# Altium schematic symbol library YS_STM32f103.SCHLIB: 71 symbols
Pins are listed as number, name and electrical type; pins without a type are passive.

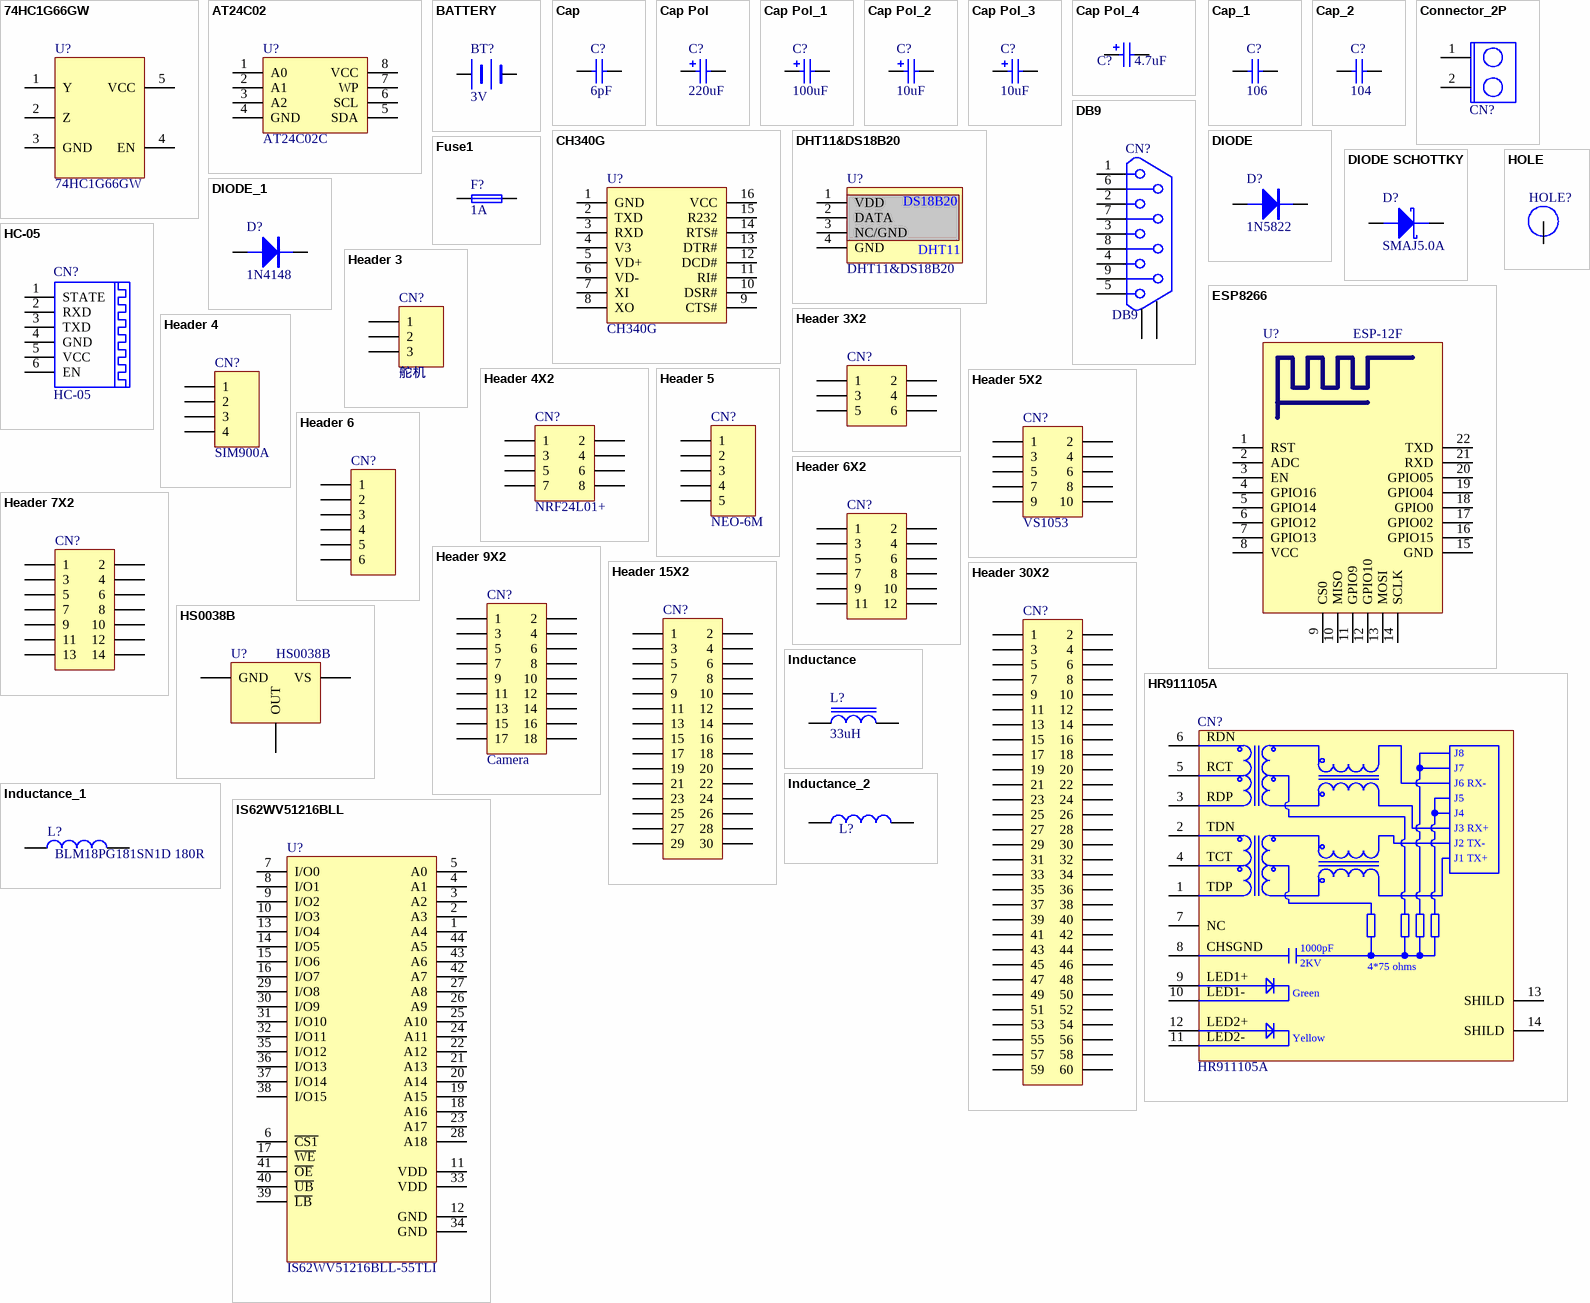
[diagram p0: symbols 74HC1G66GW to IS62WV51216BLL]

## 74HC1G66GW
designator U?
footprint SOT-353
pins: 1 Y, 2 Z, 3 GND, 4 EN, 5 VCC

## AT24C02
designator U?, comment AT24C02C
footprint SOIC8_39MM
pins: 1 A0, 2 A1, 3 A2, 4 GND, 5 SDA, 6 SCL, 7 WP, 8 VCC

## BATTERY
designator BT?  value 3V  (hidden comment: BATTERY)
footprint BATERY
pins: 1 +, 2 -

## Cap
designator C?  value 6pF  (hidden comment: Cap)
Capacitor; Published: 8-Jun-2000; LatestRevisionDate: 17-Jul-2002; LatestRevisionNote: Re-released for DXP Platform.; Publisher: Altium Limited
simulation model CAP (Capacitor)
signal-integrity model Cap
footprint 0603
pins: 1, 2

## Cap Pol
designator C?  value 220uF  (hidden comment: Cap Pol)
Polarized Capacitor (Radial); Published: 8-Jun-2000; LatestRevisionDate: 17-Jul-2002; LatestRevisionNote: Re-released for DXP Platform.; Publisher: Altium Limited
simulation model CAP (Capacitor)
signal-integrity model Cap Pol
footprint CAP-8.4X8.4MM
pins: 1, 2
1 alternate drawing of the same symbol

## Cap Pol_1
designator C?, comment value 100uF  (hidden comment: Cap Pol)
Polarized Capacitor (Radial); Published: 8-Jun-2000; LatestRevisionDate: 17-Jul-2002; LatestRevisionNote: Re-released for DXP Platform.; Publisher: Altium Limited
simulation model CAP (Capacitor)
signal-integrity model Cap Pol
footprint CAP-6.6X6.6MM
pins: 1, 2
1 alternate drawing of the same symbol

## Cap Pol_2
designator C?, comment value 10uF  (hidden comment: Cap Pol)
Polarized Capacitor (Radial); Published: 8-Jun-2000; LatestRevisionDate: 17-Jul-2002; LatestRevisionNote: Re-released for DXP Platform.; Publisher: Altium Limited
simulation model CAP (Capacitor)
signal-integrity model Cap Pol
footprint AVX_A_6032
footprint AVX_A_3216
pins: 1, 2
1 alternate drawing of the same symbol

## Cap Pol_3
designator C?, comment value 10uF  (hidden comment: Cap Pol)
Polarized Capacitor (Radial); Published: 8-Jun-2000; LatestRevisionDate: 17-Jul-2002; LatestRevisionNote: Re-released for DXP Platform.; Publisher: Altium Limited
footprint AVX_A_6032
footprint CAPPR2-5x6.8 (Capacitor, Electrolytic, Radial; Body 5 x 6.8 mm (Dia.xH typ); Pin Spacing 2 mm (typ))
footprint CAPPR5-5x5 (Capacitor, Electrolytic, Radial; Body 5 x 5 mm (Dia.xH typ); Pin Spacing 5 mm (typ))
footprint CAPPR7.5-16x35 (Capacitor, Electrolytic, Radial; Body 16 x 35 mm (Dia.xH typ); Pin Spacing 7.5 mm (typ))
simulation model CAP (Capacitor)
signal-integrity model Cap Pol
footprint AVX_A_3216
pins: 1, 2
1 alternate drawing of the same symbol

## Cap Pol_4
designator C?, comment value 4.7uF  (hidden comment: Cap Pol)
Polarized Capacitor (Radial); Published: 8-Jun-2000; LatestRevisionDate: 17-Jul-2002; LatestRevisionNote: Re-released for DXP Platform.; Publisher: Altium Limited
simulation model CAP (Capacitor)
signal-integrity model Cap Pol
footprint 1812D
footprint 0805
pins: 1, 2
1 alternate drawing of the same symbol

## Cap_1
designator C?, comment value 106  (hidden comment: Cap)
Capacitor; Published: 8-Jun-2000; LatestRevisionDate: 17-Jul-2002; LatestRevisionNote: Re-released for DXP Platform.; Publisher: Altium Limited
footprint 0603
simulation model CAP (Capacitor)
signal-integrity model Cap
footprint 0805
pins: 1, 2

## Cap_2
designator C?, comment value 104  (hidden comment: Cap)
Capacitor; Published: 8-Jun-2000; LatestRevisionDate: 17-Jul-2002; LatestRevisionNote: Re-released for DXP Platform.; Publisher: Altium Limited
footprint C_1
footprint 0603
footprint CAPR5.08-7.8x3.2 (Capacitor, Ceramic, Thru-Hole, Dipped Radial; Body 7.8 x 3.2 mm (WxT) Pin Spacing 5.08 mm (typ))
simulation model CAP (Capacitor)
signal-integrity model Cap
pins: 1, 2

## CH340G
designator U?
footprint SOIC16_39MM
pins: 1 GND, 2 TXD, 3 RXD, 4 V3, 5 VD+, 6 VD-, 7 XI, 8 XO, 9 CTS#, 10 DSR#, 11 RI#, 12 DCD#, 13 DTR#, 14 RTS#, 15 R232, 16 VCC

## Connector_2P
designator CN?  (value not drawn)
footprint CON1X2(5.08mm)
pins: 1, 2

## DB9
designator CN?
footprint CON-JH-9P/SC/R-JL
pins: 0, 0, 1, 2, 3, 4, 5, 6, 7, 8, 9

## DHT11&DS18B20
designator U?
humiture sensor
footprint DHT11&DS18B20
pins: 1 VDD, 2 DATA, 3 NC/GND, 4 GND
text: DS18B20; DHT11

## DIODE
designator D?, comment 1N5822
Diode
footprint SMA
pins: 1 A, 2 K

## DIODE SCHOTTKY
designator D?, comment SMAJ5.0A
Schottky Diode
footprint SMA
pins: 1 A, 2 K

## DIODE_1
designator D?, comment 1N4148
Diode
footprint LL-34
pins: 1 A, 2 K

## ESP8266
designator U?, comment ESP-12F
footprint ESP-12F
pins: 1 RST, 2 ADC, 3 EN, 4 GPIO16, 5 GPIO14, 6 GPIO12, 7 GPIO13, 8 VCC, 9 CS0, 10 MISO, 11 GPIO9, 12 GPIO10, 13 MOSI, 14 SCLK, 15 GND, 16 GPIO15, 17 GPIO02, 18 GPIO0, 19 GPIO04, 20 GPIO05, 21 RXD, 22 TXD

## Fuse1
designator F?, comment value 1A  (hidden comment: Fuse)
footprint FUSE_1812
pins: 1, 2

## HC-05
designator CN?
HC-05_BLUETOOTH
footprint CON1X6(2.54mm) (Connector; Header; 6 Position)
pins: 1 STATE, 2 RXD, 3 TXD, 4 GND, 5 VCC, 6 EN

## Header 3
designator CN?, comment 舵机
Header, 3-Pin; LatestRevisionDate: 17-Jul-2002; LatestRevisionNote: Re-released for DXP Platform.; Publisher: Altium Limited
footprint CON1X3(2.54mm) (Connector; Header; 3 Position)
signal-integrity model Connector
pins: 1, 2, 3

## Header 3X2
designator CN?  (value not drawn)
Header, 3-Pin, Dual row; LatestRevisionDate: 17-Jul-2002; LatestRevisionNote: Re-released for DXP Platform.; Publisher: Altium Limited
footprint CON2X3(2.54mm)
signal-integrity model Connector
pins: 1, 2, 3, 4, 5, 6

## Header 4
designator CN?, comment SIM900A
Header, 4-Pin; LatestRevisionDate: 17-Jul-2002; LatestRevisionNote: Re-released for DXP Platform.; Publisher: Altium Limited
footprint CON1X4(2.54mm) (Connector; Header; 4 Position)
signal-integrity model Connector
pins: 1, 2, 3, 4

## Header 4X2
designator CN?, comment NRF24L01+
Header, 4-Pin, Dual row; LatestRevisionDate: 17-Jul-2002; LatestRevisionNote: Re-released for DXP Platform.; Publisher: Altium Limited
footprint CON2X4(2.54MM)
signal-integrity model Connector
pins: 1, 2, 3, 4, 5, 6, 7, 8

## Header 5
designator CN?, comment NEO-6M
Header, 5-Pin; LatestRevisionDate: 17-Jul-2002; LatestRevisionNote: Re-released for DXP Platform.; Publisher: Altium Limited
footprint CON1X5(2.54mm) (Connector; Header; 5 Position)
signal-integrity model Connector
pins: 1, 2, 3, 4, 5

## Header 5X2
designator CN?, comment VS1053
Header, 5-Pin, Dual row; LatestRevisionDate: 17-Jul-2002; LatestRevisionNote: Re-released for DXP Platform.; Publisher: Altium Limited
footprint CON2X5(2.54MM)
signal-integrity model Connector
pins: 1, 2, 3, 4, 5, 6, 7, 8, 9, 10

## Header 6
designator CN?  (value not drawn)
Header, 6-Pin; LatestRevisionDate: 17-Jul-2002; LatestRevisionNote: Re-released for DXP Platform.; Publisher: Altium Limited
footprint CON1X6(2.54mm) (Connector; Header; 6 Position)
signal-integrity model Connector
footprint XH2.54-6P_90
footprint XH2.54-6P
pins: 1, 2, 3, 4, 5, 6

## Header 6X2
designator CN?  (value not drawn)
Header, 6-Pin, Dual row; LatestRevisionDate: 17-Jul-2002; LatestRevisionNote: Re-released for DXP Platform.; Publisher: Altium Limited
signal-integrity model Connector
footprint CON2X6(2.54MM)
pins: 1, 2, 3, 4, 5, 6, 7, 8, 9, 10, 11, 12

## Header 7X2
designator CN?  (value not drawn)
Header, 7-Pin, Dual row; LatestRevisionDate: 17-Jul-2002; LatestRevisionNote: Re-released for DXP Platform.; Publisher: Altium Limited
footprint HDR2X7 (Connector; Header; 7x2 Position)
signal-integrity model Connector
footprint CON2X7(2.54MM)
pins: 1, 2, 3, 4, 5, 6, 7, 8, 9, 10, 11, 12, 13, 14

## Header 9X2
designator CN?, comment Camera
Header, 9-Pin, Dual row; LatestRevisionDate: 17-Jul-2002; LatestRevisionNote: Re-released for DXP Platform.; Publisher: Altium Limited
footprint CON2X9(2.54MM)
signal-integrity model Connector
pins: 1, 2, 3, 4, 5, 6, 7, 8, 9, 10, 11, 12, 13, 14, 15, 16, 17, 18

## Header 15X2
designator CN?  (value not drawn)
Header, 15-Pin, Dual row; LatestRevisionDate: 17-Jul-2002; LatestRevisionNote: Re-released for DXP Platform.; Publisher: Altium Limited
footprint LCD_Module_30pin
signal-integrity model Connector
pins: 1, 2, 3, 4, 5, 6, 7, 8, 9, 10, 11, 12, 13, 14, 15, 16, 17, 18, 19, 20, 21, 22, 23, 24, 25, 26, 27, 28, 29, 30

## Header 30X2
designator CN?  (value not drawn)
Header, 30-Pin, Dual row; LatestRevisionDate: 17-Jul-2002; LatestRevisionNote: Re-released for DXP Platform.; Publisher: Altium Limited
footprint CON2X30(2.54MM)
signal-integrity model Connector
pins: 1, 2, 3, 4, 5, 6, 7, 8, 9, 10, 11, 12, 13, 14, 15, 16, 17, 18, 19, 20, 21, 22, 23, 24, 25, 26, 27, 28, 29, 30, 31, 32, 33, 34, 35, 36, 37, 38, 39, 40, 41, 42, 43, 44, 45, 46, 47, 48, 49, 50, 51, 52, 53, 54, 55, 56, 57, 58, 59, 60

## HOLE
designator HOLE?  (value not drawn)
Value: 3.0mm
footprint HOLE-M3
pins: 1

## HR911105A
designator CN?
footprint HR911105A
pins: 1 TD+, 2 TD-, 3 RD+, 4 TCT, 5 RCT, 6 RD-, 7 NC, 8 CHS, 9 LED1+, 10 LED1-, 11 LED2-, 12 LED2+, 13 SHILD, 14 SHILD
text: RDN; J8; J7; J6 RX-; RDP; J5; J4; TDN; J3 RX+; J2 TX-; J1 TX+; TDP; CHSGND; 1000pF; 2KV; 4*75 ohms; Green; Yellow

## HS0038B
designator U?
footprint CON1X3(2.54mm) (Connector; Header; 3 Position)
pins: 1 OUT, 2 GND, 3 VS

## Inductance
designator L?  value 33uH  (hidden comment: Inductance)
footprint L-SMT-7X7
pins: 1, 2

## Inductance_1
designator L?, comment value BLM18PG181SN1D 180R  (hidden comment: Inductance)
footprint 0603
pins: 1, 2

## Inductance_2
designator L?, comment Inductance  (value not drawn)
Value: 10uH
footprint 0805
footprint 0603
pins: 1, 2

## IS62WV51216BLL
designator U?, comment IS62WV51216BLL-55TLI
footprint TSOP44-0.8MM
pins: 1 A4, 2 A3, 3 A2, 4 A1, 5 A0, 6 ~{CS1}, 7 I/O0, 8 I/O1, 9 I/O2, 10 I/O3, 11 VDD, 12 GND, 13 I/O4, 14 I/O5, 15 I/O6, 16 I/O7, 17 ~{WE}, 18 A16, 19 A15, 20 A14, 21 A13, 22 A12, 23 A17, 24 A11, 25 A10, 26 A9, 27 A8, 28 A18, 29 I/O8, 30 I/O9, 31 I/O10, 32 I/O11, 33 VDD, 34 GND, 35 I/O12, 36 I/O13, 37 I/O14, 38 I/O15, 39 ~{LB}, 40 ~{UB}, 41 ~{OE}, 42 A7, 43 A6, 44 A5

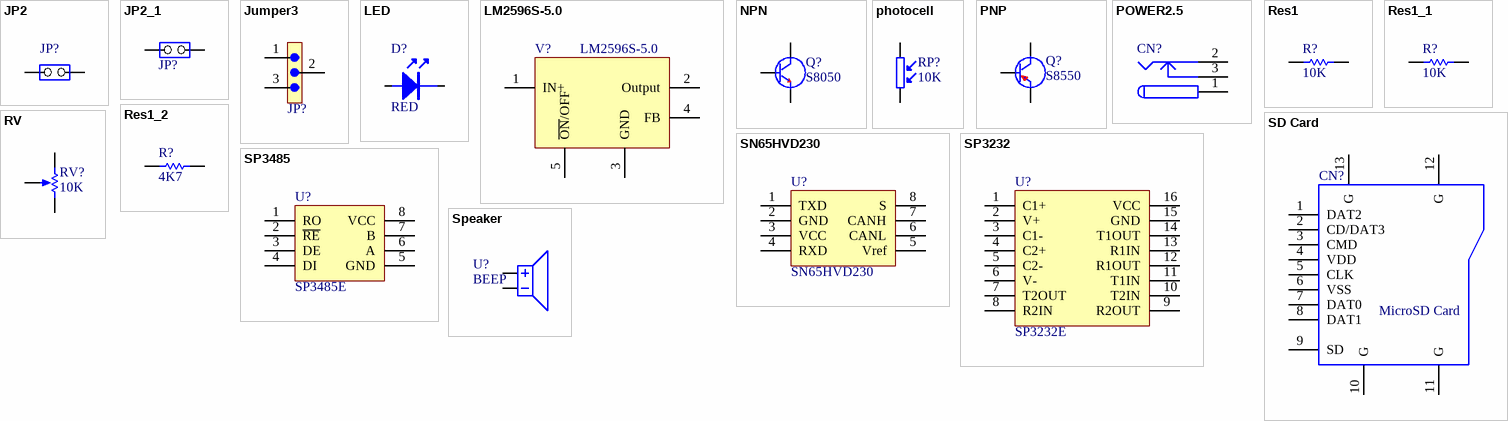
[diagram p1: symbols JP2 to Speaker]

## JP2
designator JP?  (value not drawn)
footprint CON1X2(2.54mm) (Connector; Header; 2 Position)
pins: 1 COMMON, 2 NO

## JP2_1
designator JP?, comment JP2  (value not drawn)
footprint SIP2 (Footprint not found)
footprint CON1X2(2.54mm) (Connector; Header; 2 Position)
pins: 1 COMMON, 2 NO

## Jumper3
designator JP?  (value not drawn)
footprint CON1X3(2.54mm) (Connector; Header; 3 Position)
pins: 1 3, 2 4, 3 5

## LED
designator D?, comment RED
footprint 0805D
footprint 0603D
pins: 1, 2

## LM2596S-5.0
designator V?
5V Power
footprint TO-263-5L
pins: 1 IN+, 2 Output, 3 GND, 4 FB, 5 ~{ON}/OFF

## NPN
designator Q?, comment S8050
footprint SOT-23-3L
pins: 1 B, 2 E, 3 C

## photocell
designator RP?  value 10K  (hidden comment: photocell)
footprint photocell
pins: 1, 2

## PNP
designator Q?, comment S8550
footprint SOT-23-3L
pins: 1 B, 2 E, 3 C

## POWER2.5
designator CN?  (value not drawn)
Low Voltage Power Supply Connector; Published: 17-Dec-2003; DatasheetDocument: 09-May-2002; Publisher: Altium Limited
footprint CON-DS210/SC/3-JL
signal-integrity model Connector
pins: 1 (power), 2 (power), 3 (power)

## Res1
designator R?  value 10K  (hidden comment: Res1)
Resistor; Published: 8-Jun-2000; LatestRevisionDate: 17-Jul-2002; LatestRevisionNote: Re-released for DXP Platform.; Publisher: Altium Limited
simulation model RESISTOR (Resistor)
signal-integrity model Res
footprint 0603
pins: 1, 2

## Res1_1
designator R?, comment value 10K  (hidden comment: Res1)
Resistor; Published: 8-Jun-2000; LatestRevisionDate: 17-Jul-2002; LatestRevisionNote: Re-released for DXP Platform.; Publisher: Altium Limited
signal-integrity model Res
footprint 0603
pins: 1, 2

## Res1_2
designator R?, comment value 4K7  (hidden comment: Res1)
Resistor; Published: 8-Jun-2000; LatestRevisionDate: 17-Jul-2002; LatestRevisionNote: Re-released for DXP Platform.; Publisher: Altium Limited
footprint AXIAL0.4
simulation model RESISTOR (Resistor)
signal-integrity model Res
footprint 0805
footprint 0603
pins: 1, 2

## RV
designator RV?  value 10K
footprint ADJRH (Footprint not found)
footprint VR-5
pins: 1 TOP, 2 TAP, 3 BOT

## SD Card
designator CN?, comment MicroSD Card
footprint SD_Card_TF
pins: 1 DAT2, 2 CD/DAT3, 3 CMD, 4 VDD, 5 CLK, 6 VSS, 7 DAT0, 8 DAT1, 9 SD, 10 G, 11 G, 12 G, 13 G

## SN65HVD230
designator U?
CAN
footprint SOIC8_39MM
pins: 1 TXD, 2 GND, 3 VCC, 4 RXD, 5 Vref, 6 CANL, 7 CANH, 8 S

## SP3232
designator U?, comment SP3232E
footprint SOIC16_39MM
pins: 1 C1+, 2 V+, 3 C1-, 4 C2+, 5 C2-, 6 V-, 7 T2OUT, 8 R2IN, 9 R2OUT, 10 T2IN, 11 T1IN, 12 R1OUT, 13 R1IN, 14 T1OUT, 15 GND, 16 VCC

## SP3485
designator U?, comment SP3485E
footprint SOIC8_39MM
pins: 1 RO, 2 ~{RE}, 3 DE, 4 DI, 5 GND, 6 A, 7 B, 8 VCC

## Speaker
designator U?, comment BEEP
footprint BEEP-9.5X5.5
pins: 1 P, 2 G

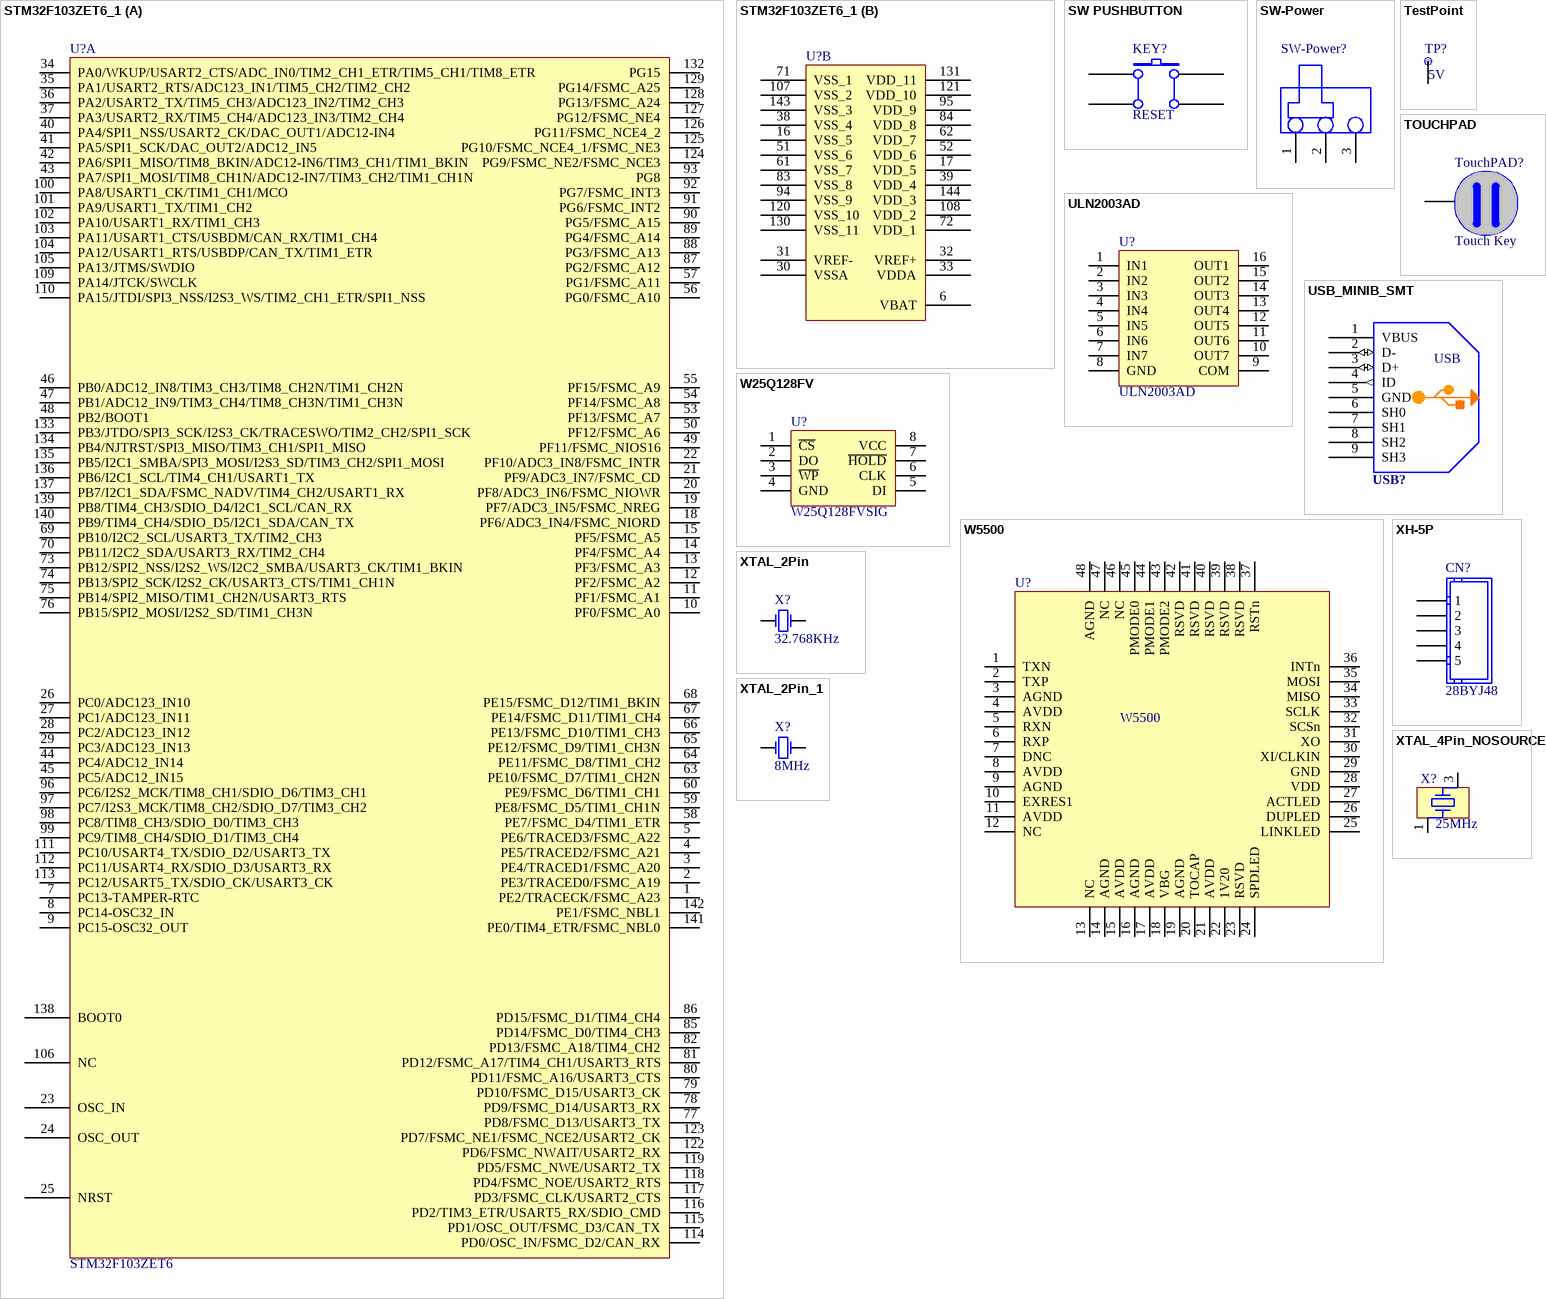
[diagram p2: symbols STM32F103ZET6_1 to XTAL_4Pin_NOSOURCE]

## STM32F103ZET6_1
designator U?, comment STM32F103ZET6
footprint LQFP144_STM32F103
part A pins: 1 PE2/TRACECK/FSMC_A23, 2 PE3/TRACED0/FSMC_A19, 3 PE4/TRACED1/FSMC_A20, 4 PE5/TRACED2/FSMC_A21, 5 PE6/TRACED3/FSMC_A22, 7 PC13-TAMPER-RTC, 8 PC14-OSC32_IN, 9 PC15-OSC32_OUT, 10 PF0/FSMC_A0, 11 PF1/FSMC_A1, 12 PF2/FSMC_A2, 13 PF3/FSMC_A3, 14 PF4/FSMC_A4, 15 PF5/FSMC_A5, 18 PF6/ADC3_IN4/FSMC_NIORD, 19 PF7/ADC3_IN5/FSMC_NREG, 20 PF8/ADC3_IN6/FSMC_NIOWR, 21 PF9/ADC3_IN7/FSMC_CD, 22 PF10/ADC3_IN8/FSMC_INTR, 23 OSC_IN, 24 OSC_OUT, 25 NRST, 26 PC0/ADC123_IN10, 27 PC1/ADC123_IN11, 28 PC2/ADC123_IN12, 29 PC3/ADC123_IN13, 34 PA0/WKUP/USART2_CTS/ADC_IN0/TIM2_CH1_ETR/TIM5_CH1/TIM8_ETR, 35 PA1/USART2_RTS/ADC123_IN1/TIM5_CH2/TIM2_CH2, 36 PA2/USART2_TX/TIM5_CH3/ADC123_IN2/TIM2_CH3, 37 PA3/USART2_RX/TIM5_CH4/ADC123_IN3/TIM2_CH4, 40 PA4/SPI1_NSS/USART2_CK/DAC_OUT1/ADC12-IN4, 41 PA5/SPI1_SCK/DAC_OUT2/ADC12_IN5, 42 PA6/SPI1_MISO/TIM8_BKIN/ADC12-IN6/TIM3_CH1/TIM1_BKIN, 43 PA7/SPI1_MOSI/TIM8_CH1N/ADC12-IN7/TIM3_CH2/TIM1_CH1N, 44 PC4/ADC12_IN14, 45 PC5/ADC12_IN15, 46 PB0/ADC12_IN8/TIM3_CH3/TIM8_CH2N/TIM1_CH2N, 47 PB1/ADC12_IN9/TIM3_CH4/TIM8_CH3N/TIM1_CH3N, 48 PB2/BOOT1, 49 PF11/FSMC_NIOS16, 50 PF12/FSMC_A6, 53 PF13/FSMC_A7, 54 PF14/FSMC_A8, 55 PF15/FSMC_A9, 56 PG0/FSMC_A10, 57 PG1/FSMC_A11, 58 PE7/FSMC_D4/TIM1_ETR, 59 PE8/FSMC_D5/TIM1_CH1N, 60 PE9/FSMC_D6/TIM1_CH1, 63 PE10/FSMC_D7/TIM1_CH2N, 64 PE11/FSMC_D8/TIM1_CH2, 65 PE12/FSMC_D9/TIM1_CH3N, 66 PE13/FSMC_D10/TIM1_CH3, 67 PE14/FSMC_D11/TIM1_CH4, 68 PE15/FSMC_D12/TIM1_BKIN, 69 PB10/I2C2_SCL/USART3_TX/TIM2_CH3, 70 PB11/I2C2_SDA/USART3_RX/TIM2_CH4, 73 PB12/SPI2_NSS/I2S2_WS/I2C2_SMBA/USART3_CK/TIM1_BKIN, 74 PB13/SPI2_SCK/I2S2_CK/USART3_CTS/TIM1_CH1N, 75 PB14/SPI2_MISO/TIM1_CH2N/USART3_RTS, 76 PB15/SPI2_MOSI/I2S2_SD/TIM1_CH3N, 77 PD8/FSMC_D13/USART3_TX, 78 PD9/FSMC_D14/USART3_RX, 79 PD10/FSMC_D15/USART3_CK, 80 PD11/FSMC_A16/USART3_CTS, 81 PD12/FSMC_A17/TIM4_CH1/USART3_RTS, 82 PD13/FSMC_A18/TIM4_CH2, 85 PD14/FSMC_D0/TIM4_CH3, 86 PD15/FSMC_D1/TIM4_CH4, 87 PG2/FSMC_A12, 88 PG3/FSMC_A13, 89 PG4/FSMC_A14, 90 PG5/FSMC_A15, 91 PG6/FSMC_INT2, 92 PG7/FSMC_INT3, 93 PG8, 96 PC6/I2S2_MCK/TIM8_CH1/SDIO_D6/TIM3_CH1, 97 PC7/I2S3_MCK/TIM8_CH2/SDIO_D7/TIM3_CH2, 98 PC8/TIM8_CH3/SDIO_D0/TIM3_CH3, 99 PC9/TIM8_CH4/SDIO_D1/TIM3_CH4, 100 PA8/USART1_CK/TIM1_CH1/MCO, 101 PA9/USART1_TX/TIM1_CH2, 102 PA10/USART1_RX/TIM1_CH3, 103 PA11/USART1_CTS/USBDM/CAN_RX/TIM1_CH4, 104 PA12/USART1_RTS/USBDP/CAN_TX/TIM1_ETR, 105 PA13/JTMS/SWDIO, 106 NC, 109 PA14/JTCK/SWCLK, 110 PA15/JTDI/SPI3_NSS/I2S3_WS/TIM2_CH1_ETR/SPI1_NSS, 111 PC10/USART4_TX/SDIO_D2/USART3_TX, 112 PC11/USART4_RX/SDIO_D3/USART3_RX, 113 PC12/USART5_TX/SDIO_CK/USART3_CK, 114 PD0/OSC_IN/FSMC_D2/CAN_RX, 115 PD1/OSC_OUT/FSMC_D3/CAN_TX, 116 PD2/TIM3_ETR/USART5_RX/SDIO_CMD, 117 PD3/FSMC_CLK/USART2_CTS, 118 PD4/FSMC_NOE/USART2_RTS, 119 PD5/FSMC_NWE/USART2_TX, 122 PD6/FSMC_NWAIT/USART2_RX, 123 PD7/FSMC_NE1/FSMC_NCE2/USART2_CK, 124 PG9/FSMC_NE2/FSMC_NCE3, 125 PG10/FSMC_NCE4_1/FSMC_NE3, 126 PG11/FSMC_NCE4_2, 127 PG12/FSMC_NE4, 128 PG13/FSMC_A24, 129 PG14/FSMC_A25, 132 PG15, 133 PB3/JTDO/SPI3_SCK/I2S3_CK/TRACESWO/TIM2_CH2/SPI1_SCK, 134 PB4/NJTRST/SPI3_MISO/TIM3_CH1/SPI1_MISO, 135 PB5/I2C1_SMBA/SPI3_MOSI/I2S3_SD/TIM3_CH2/SPI1_MOSI, 136 PB6/I2C1_SCL/TIM4_CH1/USART1_TX, 137 PB7/I2C1_SDA/FSMC_NADV/TIM4_CH2/USART1_RX, 138 BOOT0, 139 PB8/TIM4_CH3/SDIO_D4/I2C1_SCL/CAN_RX, 140 PB9/TIM4_CH4/SDIO_D5/I2C1_SDA/CAN_TX, 141 PE0/TIM4_ETR/FSMC_NBL0, 142 PE1/FSMC_NBL1
part B pins: 6 VBAT, 16 VSS_5, 17 VDD_5, 30 VSSA, 31 VREF-, 32 VREF+, 33 VDDA, 38 VSS_4, 39 VDD_4, 51 VSS_6, 52 VDD_6, 61 VSS_7, 62 VDD_7, 71 VSS_1, 72 VDD_1, 83 VSS_8, 84 VDD_8, 94 VSS_9, 95 VDD_9, 107 VSS_2, 108 VDD_2, 120 VSS_10, 121 VDD_10, 130 VSS_11, 131 VDD_11, 143 VSS_3, 144 VDD_3

## SW PUSHBUTTON
designator KEY?, comment RESET
SE PUSHBUTTON
footprint KEY-6S
footprint PB10
pins: 1 A0, 2 B0, 3 B1, 4 A1

## SW-Power
designator SW-Power?  (value not drawn)
footprint SW/SS-12F45
pins: 1, 2, 3

## TestPoint
designator TP?, comment 5V
footprint TestPoint
pins: 1

## TOUCHPAD
designator TouchPAD?, comment Touch Key
footprint TouchPAD
pins: 1

## ULN2003AD
designator U?
footprint SOIC16_39MM
pins: 1 IN1, 2 IN2, 3 IN3, 4 IN4, 5 IN5, 6 IN6, 7 IN7, 8 GND, 9 COM, 10 OUT7, 11 OUT6, 12 OUT5, 13 OUT4, 14 OUT3, 15 OUT2, 16 OUT1

## USB_MINIB_SMT
designator USB?  (value not drawn)
MiniUSB; Text Field1: 100; Text Field2: 80; 物料代码: 1.10.05.0024; 名称: USB插座; 型号: MiniUSB-B,5P/F,7.6×9×4,SMD; 贴片和直插: SMT; Value: MiniUSB-B,5P/F; RoHS: RoHS; ComponentLink1Description: ErpDataInfo; ComponentLink1URL: http://erp.zlgmcu.com/ErpExt/ErpData/ListMateriel.aspx?pkey=1.10.05.0024
footprint USB-MINI
pins: 1 VBUS, 2 D- (io), 3 D+ (io), 4 ID (out), 5 GND (power), 6 SH0, 7 SH1, 8 SH2, 9 SH3
text: USB

## W25Q128FV
designator U?, comment W25Q128FVSIG
footprint SOIC8_53MM
pins: 1 ~{CS}, 2 DO, 3 ~{WP}, 4 GND, 5 DI, 6 CLK, 7 ~{HOLD}, 8 VCC

## W5500
designator U?
WINzet
footprint LQFP48
pins: 1 TXN, 2 TXP, 3 AGND, 4 AVDD, 5 RXN, 6 RXP, 7 DNC, 8 AVDD, 9 AGND, 10 EXRES1, 11 AVDD, 12 NC, 13 NC, 14 AGND, 15 AVDD, 16 AGND, 17 AVDD, 18 VBG, 19 AGND, 20 TOCAP, 21 AVDD, 22 1V20, 23 RSVD, 24 SPDLED, 25 LINKLED, 26 DUPLED, 27 ACTLED, 28 VDD, 29 GND, 30 XI/CLKIN, 31 XO, 32 SCSn, 33 SCLK, 34 MISO, 35 MOSI, 36 INTn, 37 RSTn, 38 RSVD, 39 RSVD, 40 RSVD, 41 RSVD, 42 RSVD, 43 PMODE2, 44 PMODE1, 45 PMODE0, 46 NC, 47 NC, 48 AGND

## XH-5P
designator CN?, comment 28BYJ48
footprint XH2.54-5P
pins: 1, 2, 3, 4, 5

## XTAL_2Pin
designator X?  value 32.768KHz  (hidden comment: XTAL_2Pin)
Crystal Oscillator; Published: 8-Jun-2000; LatestRevisionDate: 17-Jul-2002; LatestRevisionNote: Re-released for DXP Platform.; Publisher: Altium Limited
footprint XTAT2
simulation model XTAL (Spice Subcircuit)
pins: 1 OSC1, 2 OSC2

## XTAL_2Pin_1
designator X?, comment value 8MHz  (hidden comment: XTAL_2Pin)
Crystal Oscillator; Published: 8-Jun-2000; LatestRevisionDate: 17-Jul-2002; LatestRevisionNote: Re-released for DXP Platform.; Publisher: Altium Limited
footprint XTAL1
simulation model XTAL (Spice Subcircuit)
pins: 1 OSC1, 2 OSC2

## XTAL_4Pin_NOSOURCE
designator X?, comment value 25MHz  (hidden comment: NOSOURCE)
footprint XTAL_SMD4_32X25
pins: 1, 3